# Altium footprint library XDCR_TLE4921-5U.PcbLib: 1 footprints
Each footprint in its own frame and in the unit in brackets; x right, y up, seen from the top. Pads: shape width x height; smd on the part's side, far side on the other; paste and mask are expansions set on the pad; w line width, h text height; cw(c..) or ccw(c..) is an arc to the next point about the centre after c.
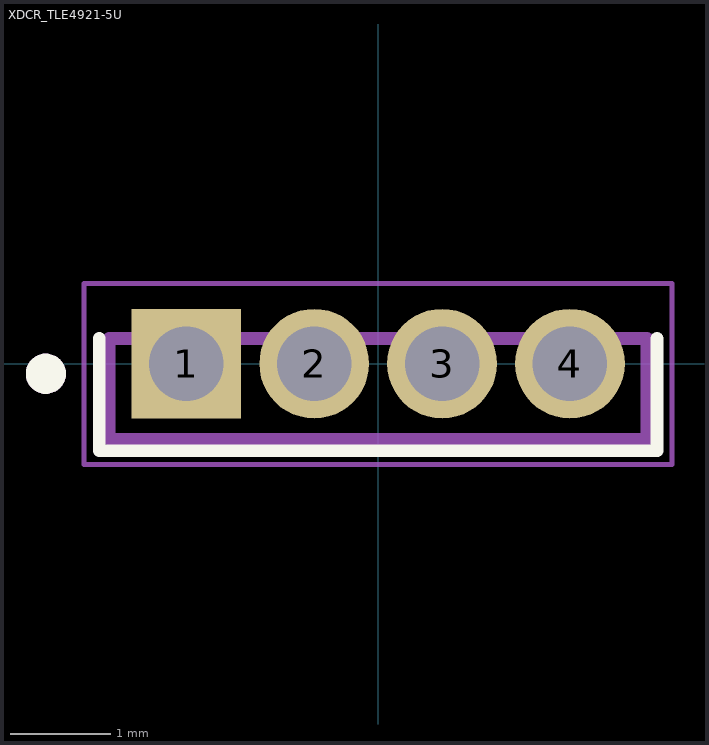
[diagram p0: the footprint, top view; thin cyan lines are the x and y axes]

## XDCR_TLE4921-5U [mm]
pads (4):
  rect 1.09x1.09 hole 0.74: 1(-1.905,0)
  round 1.09 hole 0.74: 2(-0.635,0) 3(0.635,0) 4(1.905,0)
Top Overlay:
  circle w0.2: c-3.3,-0.1 r0.1
  lines w0.127: -2.77,0.25 -2.77,-0.865 2.77,-0.865 2.77,0.25
Mechanical 13:
  circle w0.2: c-3.3,-0.1 r0.1
  lines w0.127: -2.67,-0.75 -2.67,0.25 2.67,0.25 2.67,-0.75 -2.67,-0.75
Mechanical 15:
  lines w0.05: -2.92,-1 -2.92,0.795 2.92,0.795 2.92,-1 -2.92,-1